# EAGLE library part DDC232 (library texas)
32-Channel, Current-Input Analog-to-Digital Converter Source: http://focus.ti.com/lit/ds/symlink/ddc232.pdf
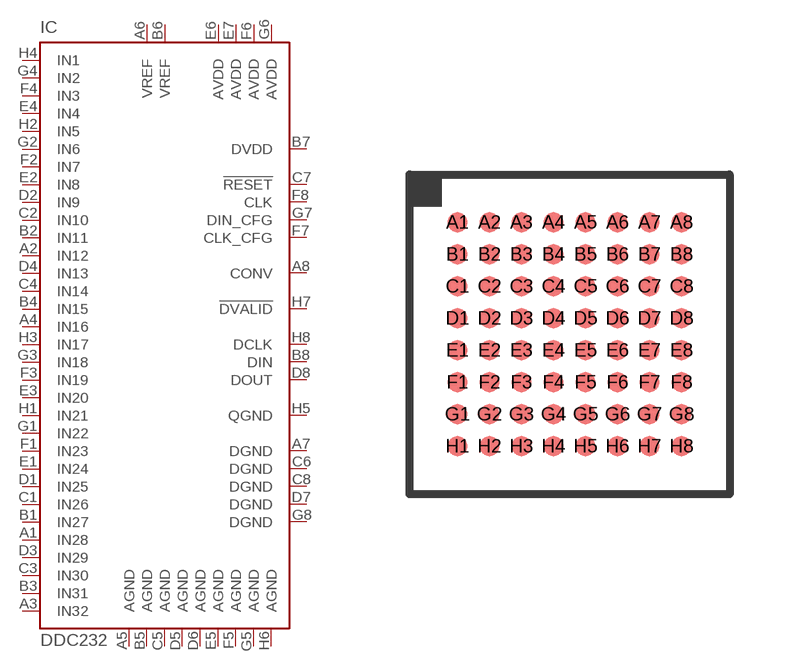
[diagram p36: symbol with the pads of PBGA-N64; footprint PBGA-N64]

Designator prefix IC

## DDC232  [PBGA-N64]
A1  IN28  in
A2  IN12  in
A3  IN32  in
A4  IN16  in
A5  AGND  pwr
A6  VREF  pas
A7  DGND  pwr
A8  CONV  in
B1  IN27  in
B2  IN11  in
B3  IN31  in
B4  IN15  in
B5  AGND  pwr
B6  VREF  pas
B7  DVDD  pwr
B8  DIN  in
C1  IN26  in
C2  IN10  in
C3  IN30  in
C4  IN14  in
C5  AGND  pwr
C6  DGND  pwr
C7  !RESET  in
C8  DGND  pwr
D1  IN25  in
D2  IN9  in
D3  IN29  in
D4  IN13  in
D5  AGND  pwr
D6  AGND  pwr
D7  DGND  pwr
D8  DOUT  out
E1  IN24  in
E2  IN8  in
E3  IN20  in
E4  IN4  in
E5  AGND  pwr
E6  AVDD  pwr
E7  AVDD  pwr
F1  IN23  in
F2  IN7  in
F3  IN19  in
F4  IN3  in
F5  AGND  pwr
F6  AVDD  pwr
F7  CLK_CFG  in
F8  CLK  in
G1  IN22  in
G2  IN6  in
G3  IN18  in
G4  IN2  in
G5  AGND  pwr
G6  AVDD  pwr
G7  DIN_CFG  in
G8  DGND  pwr
H1  IN21  in
H2  IN5  in
H3  IN17  in
H4  IN1  in
H5  QGND  pwr
H6  AGND  pwr
H7  !DVALID  out
H8  DCLK  in

## Footprint PBGA-N64 (pad centres in mm)
GXG (S-PBGA-N64 Source: http://focus.ti.com/lit/ds/symlink/ddc232.pdf
smd 0.5 x 0.5: A1 -2.8,2.8; A2 -2,2.8; A3 -1.2,2.8; A4 -0.4,2.8; A5 0.4,2.8; A6 1.2,2.8; A7 2,2.8; A8 2.8,2.8; B1 -2.8,2; B2 -2,2; B3 -1.2,2; B4 -0.4,2; B5 0.4,2; B6 1.2,2; B7 2,2; B8 2.8,2; C1 -2.8,1.2; C2 -2,1.2; C3 -1.2,1.2; C4 -0.4,1.2; C5 0.4,1.2; C6 1.2,1.2; C7 2,1.2; C8 2.8,1.2; D1 -2.8,0.4; D2 -2,0.4; D3 -1.2,0.4; D4 -0.4,0.4; D5 0.4,0.4; D6 1.2,0.4; D7 2,0.4; D8 2.8,0.4; E1 -2.8,-0.4; E2 -2,-0.4; E3 -1.2,-0.4; E4 -0.4,-0.4; E5 0.4,-0.4; E6 1.2,-0.4; E7 2,-0.4; E8 2.8,-0.4; F1 -2.8,-1.2; F2 -2,-1.2; F3 -1.2,-1.2; F4 -0.4,-1.2; F5 0.4,-1.2; F6 1.2,-1.2; F7 2,-1.2; F8 2.8,-1.2; G1 -2.8,-2; G2 -2,-2; G3 -1.2,-2; G4 -0.4,-2; G5 0.4,-2; G6 1.2,-2; G7 2,-2; G8 2.8,-2; H1 -2.8,-2.8; H2 -2,-2.8; H3 -1.2,-2.8; H4 -0.4,-2.8; H5 0.4,-2.8; H6 1.2,-2.8; H7 2,-2.8; H8 2.8,-2.8